# Altium schematic symbol library FT231XQ-R.SchLib: 1 symbol
Pins are listed as number, name and electrical type; pins without a type are passive.

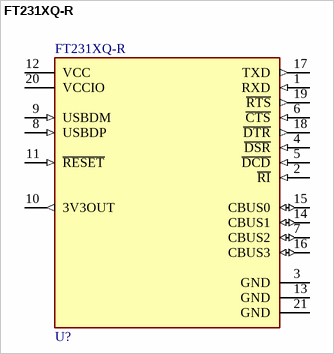
[diagram p0: symbol FT231XQ-R]

## FT231XQ-R
designator U?
IC USB SERIAL FULL UART 20QFN; Data Rate: 12Mbps; Operating Supply Current: 8mA; Min Supply Voltage: 2.97V; Max Supply Voltage: 5.5V; Number of Channels: 1; Min Operating Temperature: -40°C; Case/Package: QFN; Mount: Surface Mount; Number of Pins: 20; Interface: UART; Lead Free: Lead Free; Package Quantity: 5000; Weight: 0.004339oz; Packaging: Tape and Reel; Max Operating Temperature: 85°C; LCSC Part Number: C132159
footprint FP-QFN-20-IPC_A
footprint FP-QFN-20-MFG
footprint FP-QFN-20-IPC_C
footprint FP-QFN-20-IPC_B
pins: 1 RXD (in), 2 ~{RI} (in), 3 GND (power), 4 ~{DSR} (in), 5 ~{DCD} (in), 6 ~{CTS} (in), 7 CBUS2 (io), 8 USBDP (in), 9 USBDM (in), 10 3V3OUT (out), 11 ~{RESET} (in), 12 VCC (power), 13 GND (oe), 14 CBUS1 (io), 15 CBUS0 (io), 16 CBUS3 (io), 17 TXD (out), 18 ~{DTR} (out), 19 ~{RTS} (out), 20 VCCIO (power), 21 GND (power)